# Altium schematic symbol library PionerSCHLibrary.SchLib: 62 symbols
Pins are listed as number, name and electrical type; pins without a type are passive.

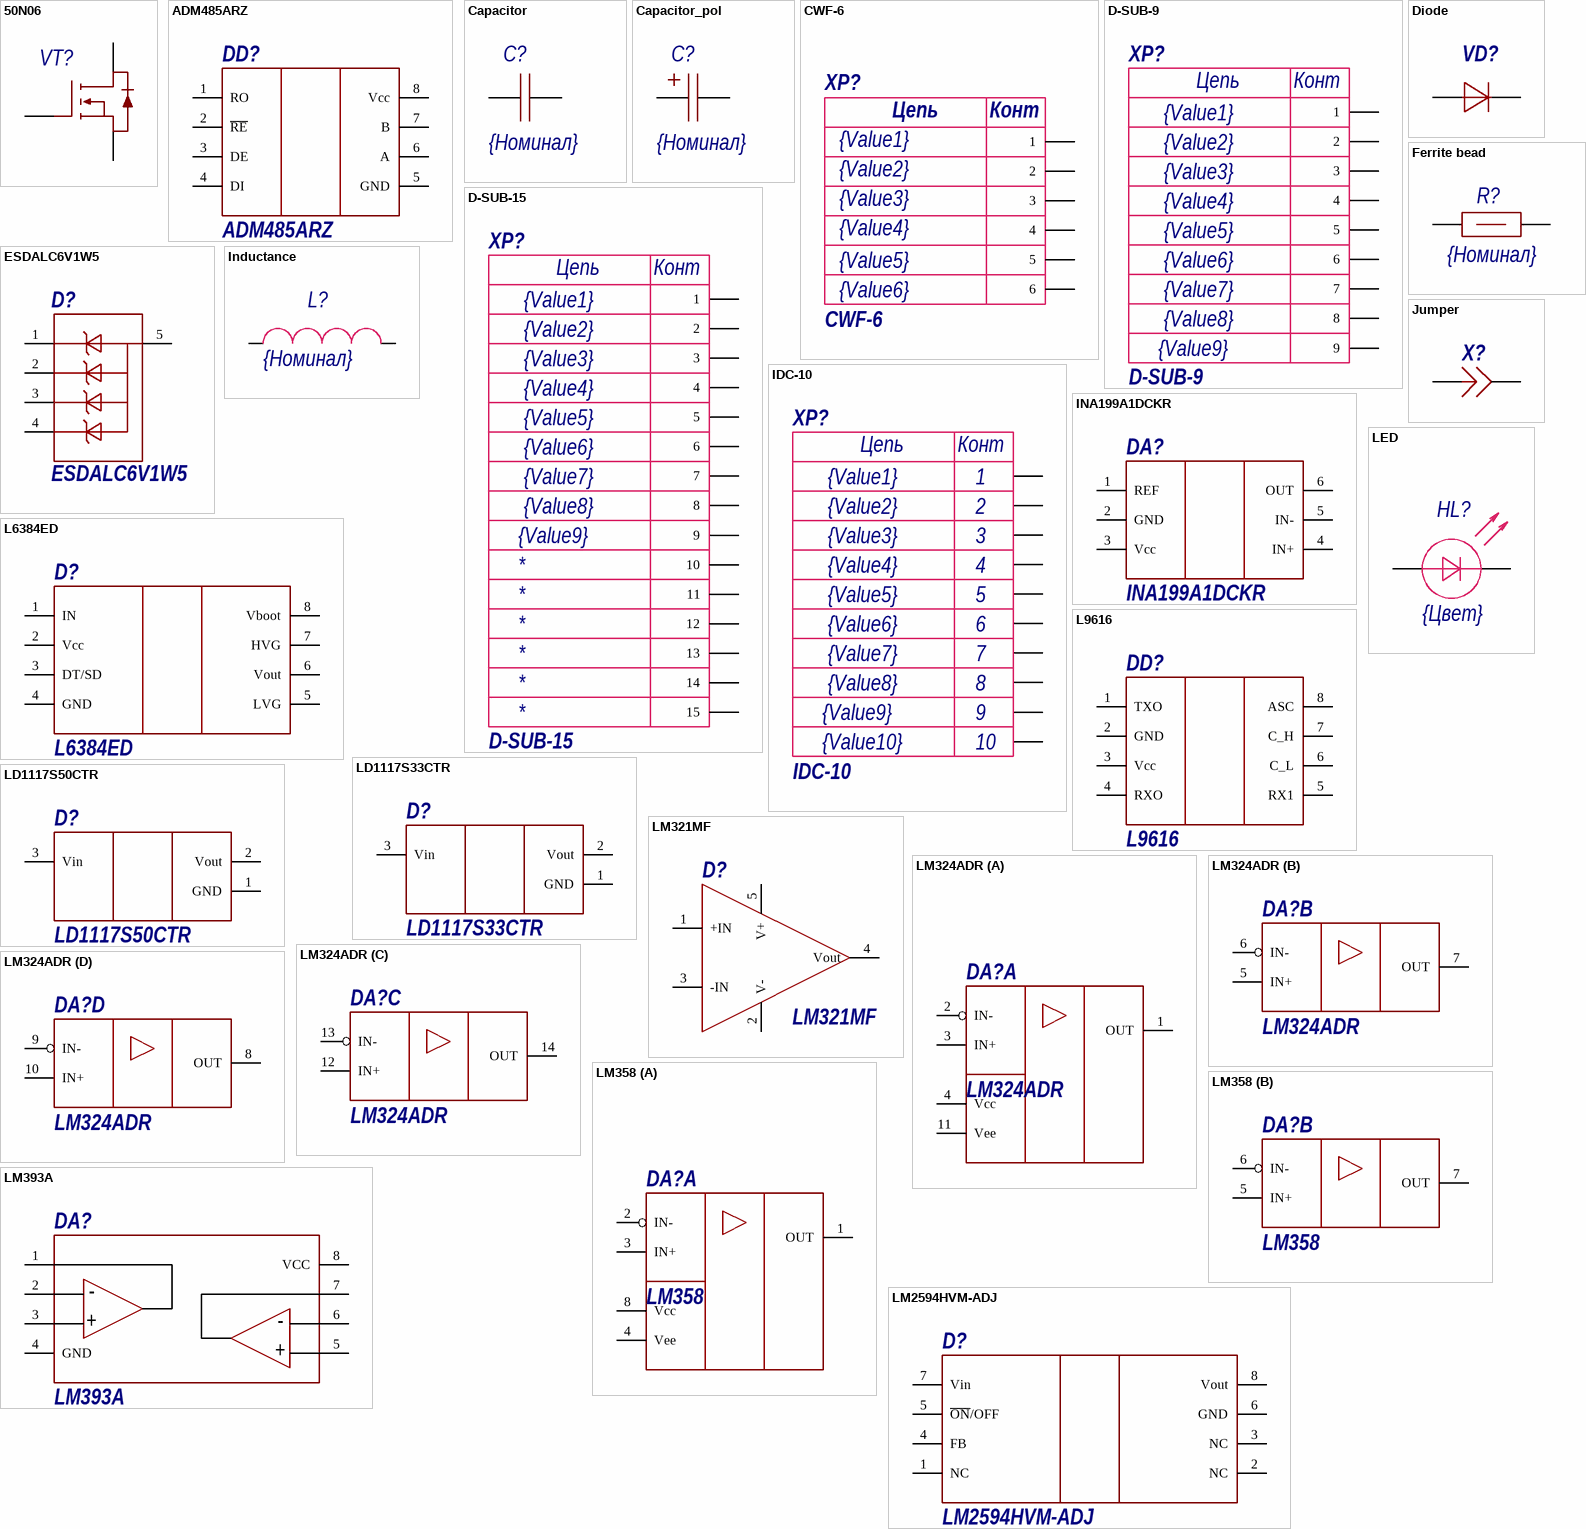
[diagram p0: symbols 50N06 to LM2594HVM-ADJ]

## 50N06
designator VT?
N-канальный MOSFET; ComponentLink1Description: Shop; ComponentLink1URL: *
footprint DPAK
footprint DPAK_termopad
pins: 1, 2, 3

## ADM485ARZ
designator DD?
Приёмопередатчик RS-485
footprint SOIC_8N (for operational amplifier)
pins: 1 RO, 2 ~{RE}, 3 DE, 4 DI, 5 GND, 6 A, 7 B, 8 Vcc

## Capacitor
designator C?, comment value {Номинал}  (hidden comment: Конденсатор)
Capacitor
footprint 0603C (Chip Resistor, 2-Leads, Body 1,40x0,80mm, IPC Medium Density)
footprint 0805C
pins: 1, 2

## Capacitor_pol
designator C?, comment value {Номинал}  (hidden comment: Конденсатор полевой)
footprint TC_A (3216) (Tantalum capacitor, type A,  1 pin - plus)
footprint TC_B (3528) (Tantalum capacitor, type B, 1 pin - plus)
footprint TC_C (6032) (Tantalum capacitor, type C, 1 pin - plus)
footprint TC_D (7343) (Tantalum capacitor, type D, 1 pin - plus)
footprint TC_E (7343H) (Tantalum capacitor, type E, 1 pin - plus)
footprint RADIAL-2 10MM
footprint RADIAL-2 8mm
pins: 1, 2

## CWF-6
designator XP?  Value1: {Value1}  Value2: {Value2}  Value3: {Value3}  Value4: {Value4}  Value5: {Value5}  Value6: {Value6}
Manufactore: CWF-5; Notice: Вилка-мама 5 пинов, шаг 2.5мм; Rate: 500В AC 1min; Case: корпус; Datasheet: https://lib.chipdip.ru/413/DOC001413777.pdf; Shop: https://www.chipdip.ru/product/cwf-5
footprint CWF-6
pins: 1, 2, 3, 4, 5, 6
text: Цепь; Конт

## D-SUB-9
designator XP?  Value1: {Value1}  Value2: {Value2}  Value3: {Value3}  Value4: {Value4}  Value5: {Value5}  Value6: {Value6}  Value7: {Value7}  Value8: {Value8}  Value9: {Value9}
Manufacturer: Zhenqin; Notice: Вилка-мама 14 пинов, шаг 2.54мм; Rate: 1000В AC 1min; Datasheet: https://lib.chipdip.ru/273/DOC000273693.pdf; Shop: https://www.chipdip.ru/product/idc-14f
footprint D-SUB-9
pins: 1, 2, 3, 4, 5, 6, 7, 8, 9
text: Цепь; Конт

## D-SUB-15
designator XP?  Pin1: {Value1}  Pin2: {Value2}  Pin3: {Value3}  Pin4: {Value4}  Pin5: {Value5}  Pin6: {Value6}  Pin7: {Value7}  Pin8: {Value8}  Pin9: {Value9}
Manufacturer: Zhenqin; Notice: Вилка-мама 14 пинов, шаг 2.54мм; Rate: 1000В AC 1min; Datasheet: https://lib.chipdip.ru/273/DOC000273693.pdf; Shop: https://www.chipdip.ru/product/idc-14f; Pin15: *; Pin14: *; Pin13: *; Pin12: *; Pin11: *; Pin10: *
footprint D-SUB-15
pins: 1, 2, 3, 4, 5, 6, 7, 8, 9, 10, 11, 12, 13, 14, 15
text: Цепь; Конт

## Diode
designator VD?
Value: {Номинал}
footprint SMB (Diod)
footprint SOD-323
footprint SMA
pins: 1, 2

## ESDALC6V1W5
designator D?
Сборка 4 защитных диодов; ComponentLink1Description: Shop; ComponentLink1URL: https://www.chipdip.ru/product0/8001780508
footprint SOT323-5L
pins: 1 9, 2 10, 3 11, 4 12, 5 13

## Ferrite bead
designator R?  value {Номинал}
footprint 0603R (Chip Resistor, 2-Leads, Body 1.60x0.85mm, IPC Medium Density)
footprint 0805R
footprint 2512R
pins: 1, 2

## IDC-10
designator XP?  value IDC-10  Value1: {Value1}  Value2: {Value2}  Value3: {Value3}  Value4: {Value4}  Value5: {Value5}  Value6: {Value6}  Value7: {Value7}  Value8: {Value8}  Value9: {Value9}  Value10: {Value10}  (hidden comment: *)
Manufacturer: Zhenqin; Notice: Вилка-мама 14 пинов, шаг 2.54мм; Rate: 1000В AC 1min; Datasheet: https://lib.chipdip.ru/273/DOC000273693.pdf; Shop: https://www.chipdip.ru/product/idc-14f
footprint IDC-10 (IDC-10 Male Connector)
pins: 1, 2, 3, 4, 5, 6, 7, 8, 9, 10
text: Цепь; Конт

## INA199A1DCKR
designator DA?
Токоизмерительный операционный усилитель
footprint SOT-SC70-6
pins: 1 REF, 2 GND, 3 Vcc, 4 IN+, 5 IN-, 6 OUT

## Inductance
designator L?  value {Номинал}  (hidden comment: *)
footprint 0603L (Chip Inductor, 2-Leads, Body 1,55x0,85mm, IPC Medium Density)
footprint 1210L
footprint 1212L
footprint RADIAL-2 10MM
footprint IHLP-6767
footprint IND_B82477G
pins: 1, 2

## Jumper
designator X?  (value not drawn)
footprint Jumper
pins: 1, 2

## L6384ED
designator D?
Драйвер полумоста; ComponentLink1Description: Shop; ComponentLink1URL: https://www.chipdip.ru/product/l6384ed
footprint SOIC_8N (for operational amplifier)
pins: 1 IN, 2 Vcc, 3 DT/SD, 4 GND, 5 LVG, 6 Vout, 7 HVG, 8 Vboot

## L9616
designator DD?
Приёмопередатчик CAN
footprint SOIC_8N (for operational amplifier)
pins: 1 TXO, 2 GND, 3 Vcc, 4 RXO, 5 RX1, 6 C_L, 7 C_H, 8 ASC

## LD1117S33CTR
designator D?
Линейный стабилизатор напряжения 3,3 вольта. Максимальный ток - 0,8 ампер, гарантированное падение напряжения 1,3 вольта
footprint SOT223 (SOT223, ld1117)
pins: 1 GND, 2 Vout, 3 Vin

## LD1117S50CTR
designator D?
Линейный стабилизатор напряжения 5 вольта. Максимальный ток - 0,8 ампер, гарантированное падение напряжения 1,3 вольта
footprint SOT223 (SOT223, ld1117)
pins: 1 GND, 2 Vout, 3 Vin

## LED
designator HL?  Color: {Цвет}
Manufacturer: -; Rate: -; Datasheet: -; Shop: -; Notice: -; Case: -
footprint 0805D
pins: 1, 2

## LM321MF
designator D?
Операционный усилитель; ComponentLink1Description: Shop; ComponentLink1URL: https://www.chipdip.ru/product/lm321mf
footprint SOT23-5 (SOT23-5, max999)
pins: 1 +IN, 2 V-, 3 -IN, 4 Vout, 5 V+

## LM324ADR
designator DA?
Операционный усилитель счетверённый общего применения
footprint SOIC-14
part A pins: 1 OUT, 2 IN-, 3 IN+, 4 Vcc, 11 Vee
part B pins: 5 IN+, 6 IN-, 7 OUT
part C pins: 12 IN+, 13 IN-, 14 OUT
part D pins: 8 OUT, 9 IN-, 10 IN+

## LM358
designator DA?
Операционный усилитель сдвоенный общего применения
footprint SOIC_8N (for operational amplifier)
part A pins: 1 OUT, 2 IN-, 3 IN+, 4 Vee, 8 Vcc
part B pins: 5 IN+, 6 IN-, 7 OUT

## LM393A
designator DA?
Сдвоенный компаратор
pins: 1 OUT_A, 2 IN_A-, 3 IN_A+, 4 GND, 5 IN_B+, 6 IN_B-, 7 OUT_B, 8 VCC
text: -; +

## LM2594HVM-ADJ
designator D?
Импульсный DC-DC преобразователь, вход до 60 вольт, регулируемый выход, выходной ток 2 Ампера
footprint SOIC_8N (for operational amplifier)
pins: 1 NC, 2 NC, 3 NC, 4 FB, 5 ~{ON}/OFF, 6 GND, 7 Vin, 8 Vout

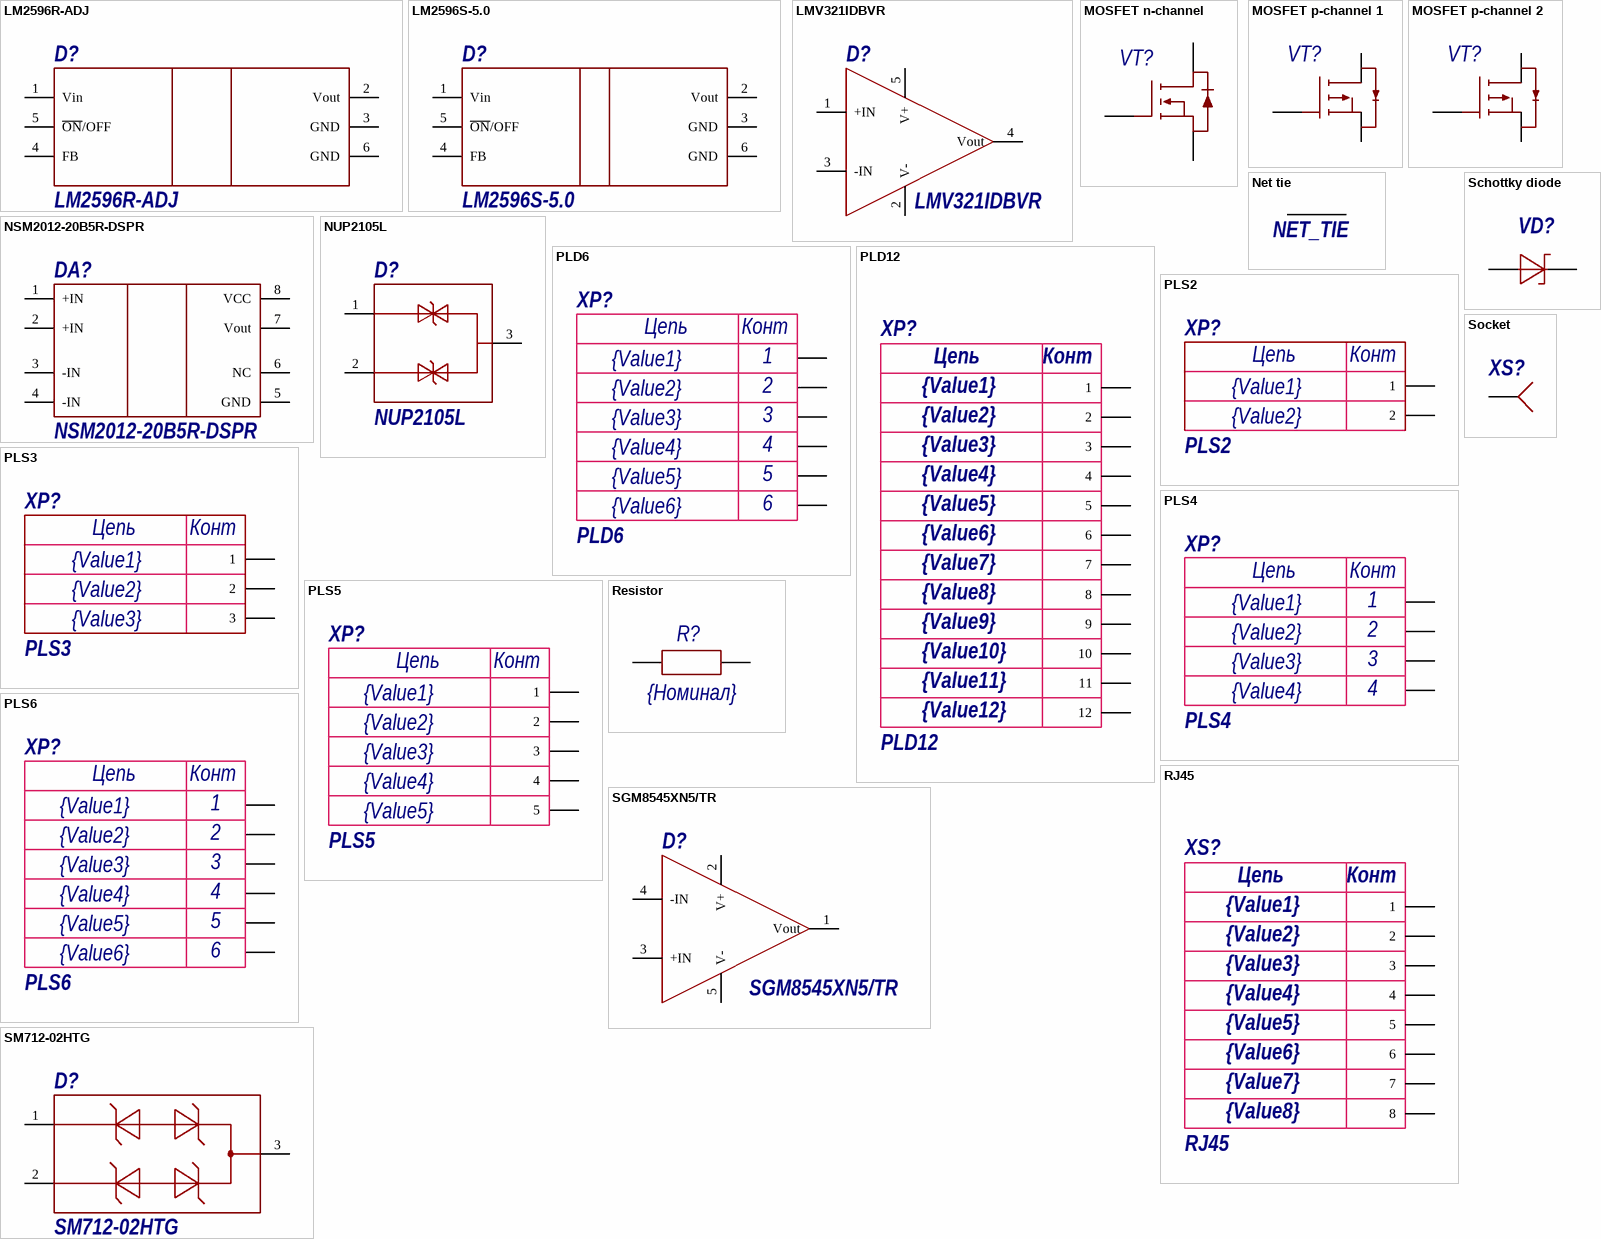
[diagram p1: symbols LM2596R-ADJ to Socket]

## LM2596R-ADJ
designator D?
Импульсный DC-DC преобразователь, вход до 40 вольт, регулируемый выход, выходной ток 3 Ампера
footprint TO-263-5 (Footprint not found)
pins: 1 Vin, 2 Vout, 3 GND, 4 FB, 5 ~{ON}/OFF, 6 GND

## LM2596S-5.0
designator D?
Импульсный DC-DC преобразователь, вход до 40 вольт, выход 5 вольт, выходной ток 3 Ампера
footprint TO-263-5
pins: 1 Vin, 2 Vout, 3 GND, 4 FB, 5 ~{ON}/OFF, 6 GND

## LMV321IDBVR
designator D?
Низковольтный операционный усилитель
footprint SOT23-5 (SOT23-5, max999)
pins: 1 +IN, 2 V-, 3 -IN, 4 Vout, 5 V+

## MOSFET n-channel
designator VT?
N-канальный MOSFET; ComponentLink1Description: Shop; ComponentLink1URL: *
footprint DPAK
footprint DPAK_termopad
pins: 1, 2, 3

## MOSFET p-channel 1
designator VT?
P-канальный полевой транзистор
footprint SOT23-3
pins: 1, 2, 3

## MOSFET p-channel 2
designator VT?
P-канальный полевой транзистор; Chip Name: IRF4905PBF
footprint TO-220-3
pins: 1, 2, 3

## Net tie
designator *, comment NET_TIE  (net tie, no BOM)
footprint Net tie
pins: 1, 2

## NSM2012-20B5R-DSPR
designator DA?
Датчик тока на основе эффекта Холла. Ток +-20 А, напряжение питания 5 В.
footprint SOIC_8N (for operational amplifier)
pins: 1 +IN, 2 +IN, 3 -IN, 4 -IN, 5 GND, 6 NC, 7 Vout, 8 VCC

## NUP2105L
designator D?
Сборка 2 защитных диодов +24В; ComponentLink1Description: Shop; ComponentLink1URL: https://www.chipdip.ru/product/nup2105l
footprint SOT23-3
pins: 1 9, 2 10, 3 13

## PLD6
designator XP?  value PLD6  Value1: {Value1}  Value2: {Value2}  Value3: {Value3}  Value4: {Value4}  Value5: {Value5}  Value6: {Value6}  (hidden comment: *)
Manufacturer: Connfly; Notice: Вилка штырьевая 6 пинов, шаг 2,54мм; Rate: 500В AC 1min; Datasheet: https://lib.chipdip.ru/227/DOC000227157.pdf; Shop: https://www.chipdip.ru/product/pld-6
footprint PLD6
pins: 1, 2, 3, 4, 5, 6
text: Цепь; Конт

## PLD12
designator XP?  value PLD12  Value10: {Value10}  Value11: {Value11}  Value12: {Value12}  Value1: {Value1}  Value2: {Value2}  Value3: {Value3}  Value4: {Value4}  Value5: {Value5}  Value6: {Value6}  Value7: {Value7}  Value8: {Value8}  Value9: {Value9}  (hidden comment: *)
Manufacturer: Connfly; Notice: Вилка штырьевая 12 пинов, шаг 2,54мм; Rate: 500В AC 1min; Datasheet: https://lib.chipdip.ru/227/DOC000227157.pdf; Shop: https://www.chipdip.ru/product/pld-12
footprint PLD12
pins: 1, 2, 3, 4, 5, 6, 7, 8, 9, 10, 11, 12
text: Цепь; Конт

## PLS2
designator XP?  value PLS2  Value2: {Value2}  Value1: {Value1}  (hidden comment: *)
Manufacturer: Connfly; Notice: Вилка штырьевая 4 пина, шаг 2,54мм; Rate: 500В AC 1min; Datasheet: https://lib.chipdip.ru/227/DOC000227157.pdf; Shop: https://www.chipdip.ru/product/pls-4
footprint PLS2
pins: 1, 2
text: Цепь; Конт

## PLS3
designator XP?  value PLS3  Value3: {Value3}  Value2: {Value2}  Value1: {Value1}  (hidden comment: *)
Manufacturer: Connfly; Notice: Вилка штырьевая 4 пина, шаг 2,54мм; Rate: 500В AC 1min; Datasheet: https://lib.chipdip.ru/227/DOC000227157.pdf; Shop: https://www.chipdip.ru/product/pls-4
footprint PLS3
pins: 1, 2, 3
text: Цепь; Конт

## PLS4
designator XP?  value PLS4  Value3: {Value3}  Value2: {Value2}  Value4: {Value4}  Value1: {Value1}  (hidden comment: *)
Manufacturer: Connfly; Notice: Вилка штырьевая 4 пина, шаг 2,54мм; Rate: 500В AC 1min; Datasheet: https://lib.chipdip.ru/227/DOC000227157.pdf; Shop: https://www.chipdip.ru/product/pls-4
footprint PLS4
pins: 1, 2, 3, 4
text: Цепь; Конт

## PLS5
designator XP?  value PLS5  Value1: {Value1}  Value2: {Value2}  Value3: {Value3}  Value4: {Value4}  Value5: {Value5}  (hidden comment: *)
Manufacturer: Connfly; Notice: Вилка штырьевая 6 пинов, шаг 2,54мм; Rate: 500В AC 1min; Datasheet: https://lib.chipdip.ru/227/DOC000227157.pdf; Shop: https://www.chipdip.ru/product/pls-6
footprint PLS5
pins: 1, 2, 3, 4, 5
text: Цепь; Конт

## PLS6
designator XP?  value PLS6  Value1: {Value1}  Value2: {Value2}  Value3: {Value3}  Value4: {Value4}  Value5: {Value5}  Value6: {Value6}  (hidden comment: *)
Manufacturer: Connfly; Notice: Вилка штырьевая 6 пинов, шаг 2,54мм; Rate: 500В AC 1min; Datasheet: https://lib.chipdip.ru/227/DOC000227157.pdf; Shop: https://www.chipdip.ru/product/pls-6
footprint PLS6
pins: 1, 2, 3, 4, 5, 6
text: Цепь; Конт

## Resistor
designator R?  value {Номинал}
Power: *
footprint 0603R (Chip Resistor, 2-Leads, Body 1.60x0.85mm, IPC Medium Density)
footprint 0805R
footprint 2512R
footprint 50x10R
pins: 1, 2

## RJ45
designator XS?  value RJ45  Value1: {Value1}  Value2: {Value2}  Value3: {Value3}  Value4: {Value4}  Value5: {Value5}  Value6: {Value6}  Value7: {Value7}  Value8: {Value8}  (hidden comment: *)
Manufacturer: Connfly; Notice: Вилка штырьевая 12 пинов, шаг 2,54мм; Rate: 500В AC 1min; Datasheet: https://lib.chipdip.ru/227/DOC000227157.pdf; Shop: https://www.chipdip.ru/product/pld-12
footprint RJ-45 socket
pins: 1, 2, 3, 4, 5, 6, 7, 8
text: Цепь; Конт

## Schottky diode
designator VD?, comment Диод Шоттки  (value not drawn)
Value: {Номинал}
footprint SMB (Diod)
footprint SOD-323
footprint SMA
footprint SMC
pins: 1, 2

## SGM8545XN5/TR
designator D?
Операционный усилитель
footprint SOT23-5 (SOT23-5, max999)
pins: 1 Vout, 2 V+, 3 +IN, 4 -IN, 5 V-

## SM712-02HTG
designator D?
Сборка 2 защитных диодов для защиты от статического электричества, номинальное напряжение 12 Вольт; ComponentLink1Description: Shop; ComponentLink1URL: https://www.chipdip.ru/product0/8001939216
footprint SOT23-3
pins: 1 14, 2 15, 3 16

## Socket
designator XS?  (value not drawn)
pins: 5

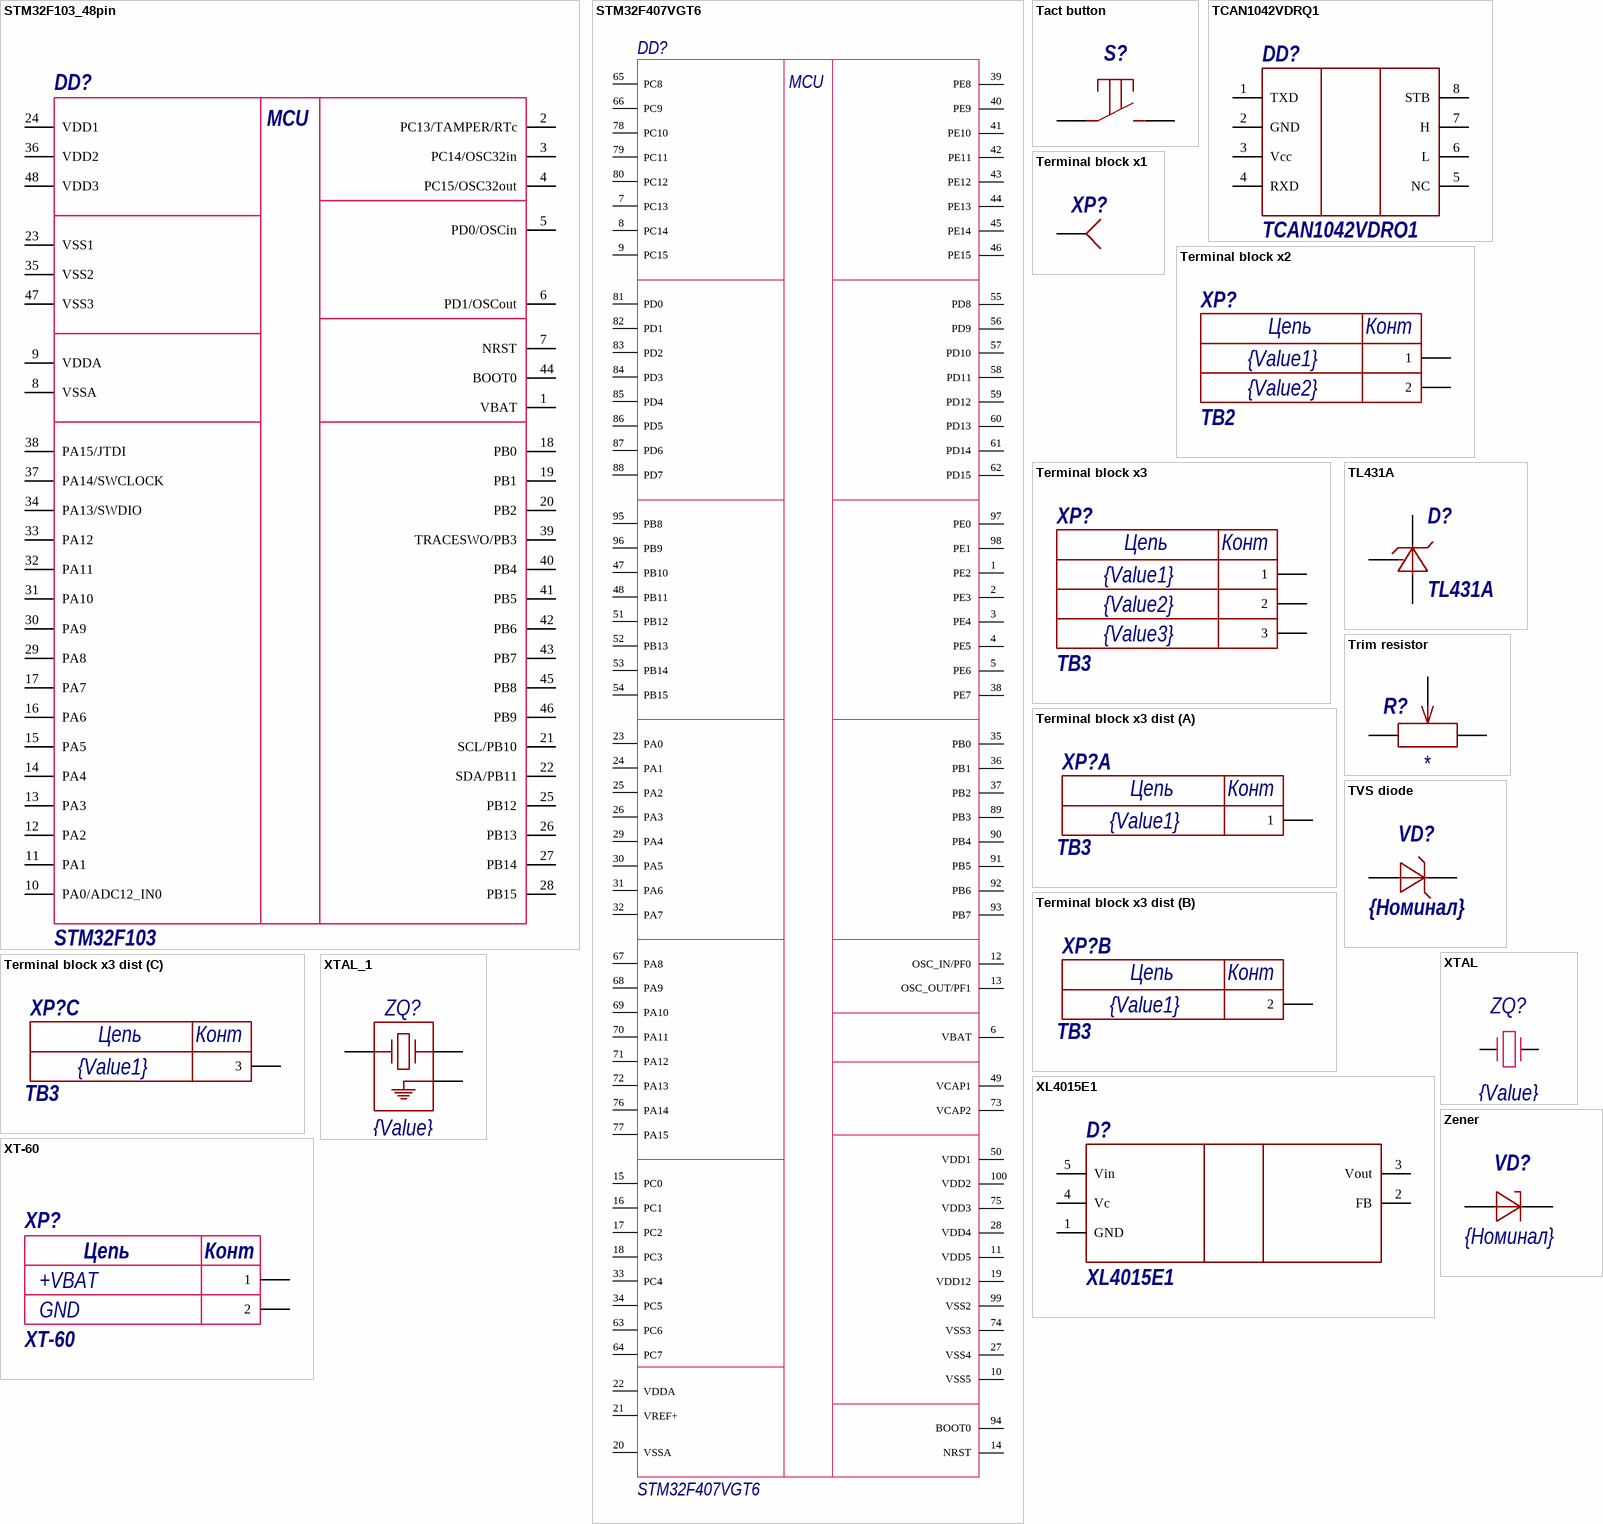
[diagram p2: symbols STM32F103_48pin to Zener]

## STM32F103_48pin
designator DD?, comment STM32F103  Value1: MCU
Микроконтроллер; Manufacturer: ST Microelectronics; Rate: -0,3...4,0В; Shop: магазин с самой дешевой ценой; Notice: 48 пиновая версия STM32F103; Datasheet: http://www.st.com/content/ccc/resource/technical/document/datasheet/33/d4/6f/1d/df/0b/4c/6d/CD00161566.pdf/files/CD00161566.pdf/jcr:content/translations/en.CD00161566.pdf; Case: корпус
footprint LQFP48 (TSQFP, 48-Leads, Body 7,00x7,00mm, Pitch 0,50mm, IPC Medium Density)
pins: 1 VBAT, 2 PC13/TAMPER/RTc, 3 PC14/OSC32in, 4 PC15/OSC32out, 5 PD0/OSCin, 6 PD1/OSCout, 7 NRST, 8 VSSA, 9 VDDA, 10 PA0/ADC12_IN0, 11 PA1, 12 PA2, 13 PA3, 14 PA4, 15 PA5, 16 PA6, 17 PA7, 18 PB0, 19 PB1, 20 PB2, 21 SCL/PB10, 22 SDA/PB11, 23 VSS1, 24 VDD1, 25 PB12, 26 PB13, 27 PB14, 28 PB15, 29 PA8, 30 PA9, 31 PA10, 32 PA11, 33 PA12, 34 PA13/SWDIO, 35 VSS2, 36 VDD2, 37 PA14/SWCLOCK, 38 PA15/JTDI, 39 TRACESWO/PB3, 40 PB4, 41 PB5, 42 PB6, 43 PB7, 44 BOOT0, 45 PB8, 46 PB9, 47 VSS3, 48 VDD3

## STM32F407VGT6
designator DD?
Manufactore: STMicroelectronics; Rate: 2.0 V to 3.6 V; Datasheet: http://www.st.com/content/ccc/resource/technical/document/datasheet/f2/1f/e1/41/ef/59/4d/50/DM00058181.pdf/files/DM00058181.pdf/jcr:content/translations/en.DM00058181.pdf; Footprint: LQFP100
footprint LQFP100 (TSQFP, 100-Leads, Body 14,00x14,00mm, Pitch 0,50mm, IPC Medium Density)
pins: 1 PE2, 2 PE3, 3 PE4, 4 PE5, 5 PE6, 6 VBAT, 7 PC13, 8 PC14, 9 PC15, 10 VSS5, 11 VDD5, 12 OSC_IN/PF0, 13 OSC_OUT/PF1, 14 NRST, 15 PC0, 16 PC1, 17 PC2, 18 PC3, 19 VDD12, 20 VSSA, 21 VREF+, 22 VDDA, 23 PA0, 24 PA1, 25 PA2, 26 PA3, 27 VSS4, 28 VDD4, 29 PA4, 30 PA5, 31 PA6, 32 PA7, 33 PC4, 34 PC5, 35 PB0, 36 PB1, 37 PB2, 38 PE7, 39 PE8, 40 PE9, 41 PE10, 42 PE11, 43 PE12, 44 PE13, 45 PE14, 46 PE15, 47 PB10, 48 PB11, 49 VCAP1, 50 VDD1, 51 PB12, 52 PB13, 53 PB14, 54 PB15, 55 PD8, 56 PD9, 57 PD10, 58 PD11, 59 PD12, 60 PD13, 61 PD14, 62 PD15, 63 PC6, 64 PC7, 65 PC8, 66 PC9, 67 PA8, 68 PA9, 69 PA10, 70 PA11, 71 PA12, 72 PA13, 73 VCAP2, 74 VSS3, 75 VDD3, 76 PA14, 77 PA15, 78 PC10, 79 PC11, 80 PC12, 81 PD0, 82 PD1, 83 PD2, 84 PD3, 85 PD4, 86 PD5, 87 PD6, 88 PD7, 89 PB3, 90 PB4, 91 PB5, 92 PB6, 93 PB7, 94 BOOT0, 95 PB8, 96 PB9, 97 PE0, 98 PE1, 99 VSS2, 100 VDD2
text: MCU

## Tact button
designator S?  (value not drawn)
footprint BUTTON_6x6
footprint BUTTON 10mm
pins: 1, 2

## TCAN1042VDRQ1
designator DD?
Приёмопередатчик CAN
footprint SOIC_8N (for operational amplifier)
pins: 1 TXD, 2 GND, 3 Vcc, 4 RXD, 5 NC, 6 L, 7 H, 8 STB

## Terminal block x1
designator XP?  (value not drawn)
footprint Terminal M3
pins: 1

## Terminal block x2
designator XP?  value TB2  Value2: {Value2}  Value1: {Value1}  (hidden comment: *)
Двухконтактный клеммник; Manufacturer: Connfly; Notice: Вилка штырьевая 4 пина, шаг 2,54мм; Rate: 500В AC 1min; Datasheet: https://lib.chipdip.ru/227/DOC000227157.pdf; Shop: https://www.chipdip.ru/product/pls-4
footprint Terminal block x2 5mm
pins: 1, 2
text: Цепь; Конт

## Terminal block x3
designator XP?  value TB3  Value3: {Value3}  Value2: {Value2}  Value1: {Value1}  (hidden comment: *)
Трёхконтактный клеммник; Manufacturer: Connfly; Notice: Вилка штырьевая 4 пина, шаг 2,54мм; Rate: 500В AC 1min; Datasheet: https://lib.chipdip.ru/227/DOC000227157.pdf; Shop: https://www.chipdip.ru/product/pls-4
footprint Terminal block x3 5mm
pins: 1, 2, 3
text: Цепь; Конт

## Terminal block x3 dist
designator XP?  value TB3  Value1: {Value1}  (hidden comment: *)
Трёхконтактный клеммник; Manufacturer: Connfly; Notice: Вилка штырьевая 4 пина, шаг 2,54мм; Rate: 500В AC 1min; Datasheet: https://lib.chipdip.ru/227/DOC000227157.pdf; Shop: https://www.chipdip.ru/product/pls-4
footprint Terminal block x3 5mm
part A pins: 1
part B pins: 2
part C pins: 3
part A text: Цепь; Конт
part B text: Цепь; Конт
part C text: Цепь; Конт

## TL431A
designator D?
footprint SOT23-3
pins: 1 R, 2 K, 3 A

## Trim resistor
designator R?, comment Переменный резистор  (value not drawn)
Value: *
footprint SMD_TRIM
pins: 1, 2, 3

## TVS diode
designator VD?, comment value {Номинал}  (hidden comment: Защитный диод)
footprint SMB (Diod)
footprint SOD-323
footprint SMA
pins: 1, 2

## XL4015E1
designator D?
Импульсный DC-DC преобразователь. Вход до 36 В. Регулируемый выход. Выходной ток до 5А.
footprint TO-263-5
pins: 1 GND, 2 FB, 3 Vout, 4 Vc, 5 Vin

## XT-60
designator XP?  value XT-60  Value1: GND  Value2: +VBAT  (hidden comment: *)
Manufacturer: Connfly; Notice: Вилка-мама 2 пина, шаг 2.5мм; Rate: 500В AC 1min; Case: корпус; Datasheet: https://lib.chipdip.ru/413/DOC001413777.pdf; Shop: https://www.chipdip.ru/product/cwf-2
footprint AMASS_XT60PW-M
footprint AMASS_XT60-M
pins: 1, 2
text: Цепь; Конт

## XTAL
designator ZQ?, comment value {Value}  (hidden comment: Кварцевый резонатор)
footprint XTAL-SMD-2
footprint HC49US
footprint HC49SD
pins: 1, 2

## XTAL_1
designator ZQ?, comment value {Value}  (hidden comment: Кварцевый резонатор)
Кварцевый резонатор в четырёхногом корпусе
footprint QSMD3.2x2.5 (Кварцевый резонатор)
pins: 1, 2, 3

## Zener
designator VD?, comment value {Номинал}  (hidden comment: Стабилитрон)
footprint SMB (Diod)
footprint SOD-323
footprint SMA
pins: 1, 2